# EAGLE library part RJ45-RJHSE-548* (library LoganSmith-Connectors)
Shielded CAT5 RJ45 90° w/ LEDs and board lock Datasheet <https://www.amphenolcanada.com/ProductSearch/drawings/AC/RJHSE548X.pdf>
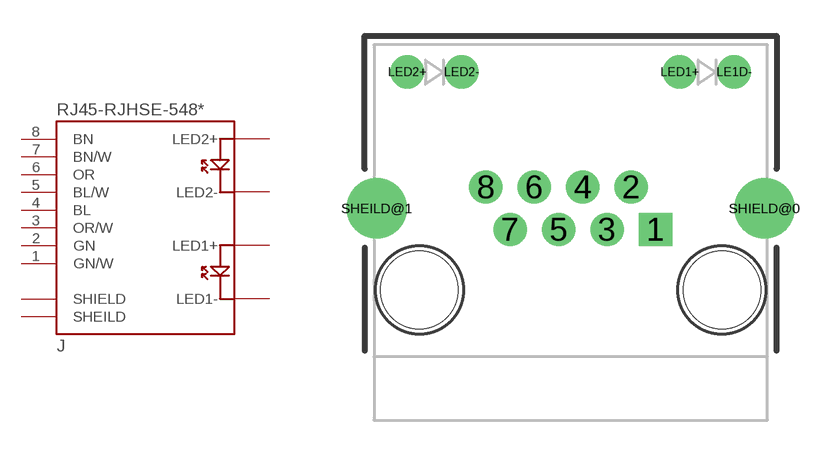
[diagram p2: symbol with the pads of RJ45-RJHSE; footprint RJ45-RJHSE]

Designator prefix J

## RJ45-RJHSE-5480 (LED1_COLOR: X; LED2_COLOR: X), RJ45-RJHSE-5481 (LED1_COLOR: GRN; LED2_COLOR: YEL), RJ45-RJHSE-5482 (LED1_COLOR: GRN; LED2_COLOR: X), RJ45-RJHSE-5483 (LED1_COLOR: X; LED2_COLOR: YEL), RJ45-RJHSE-5484 (LED1_COLOR: YEL; LED2_COLOR: GRN), RJ45-RJHSE-5485 (LED1_COLOR: GRN; LED2_COLOR: GRN)  [RJ45-RJHSE]
1  GN/W
2  GN
3  OR/W
4  BL
5  BL/W
6  OR
7  BN/W
8  BN
LE1D-  LED1-
LED1+  LED1+
LED2+  LED2+
LED2-  LED2-
SHEILD@1  SHEILD
SHIELD@0  SHIELD

## Footprint RJ45-RJHSE (pad centres in mm)
RJHSE-548* footprint Datasheet <http://www.digikey.com/product-detail/en/RJHSE-5481/RJHSE-5481-ND/1242705>
drill 0.889 square: 1 3.556,-1.778
drill 0.889: 2 2.54,0; 3 1.524,-1.778; 4 0.508,0; 5 -0.508,-1.778; 6 -1.524,0; 7 -2.54,-1.778; 8 -3.556,0; LE1D- 6.858,4.826; LED1+ 4.572,4.826; LED2+ -6.858,4.826; LED2- -4.572,4.826
drill 1.575 pad 2.54: SHEILD@1 -8.128,-0.889; SHIELD@0 8.128,-0.889
hole 3.25 at -6.35,-4.318
hole 3.25 at 6.35,-4.318